# EAGLE library part ENCODER_QUADRATE_WITH_BUTTON (library tlcamera_rail_to_manufacture)
ENCODER, QUADRATE OUTPUT, INCLUDED SWITCH
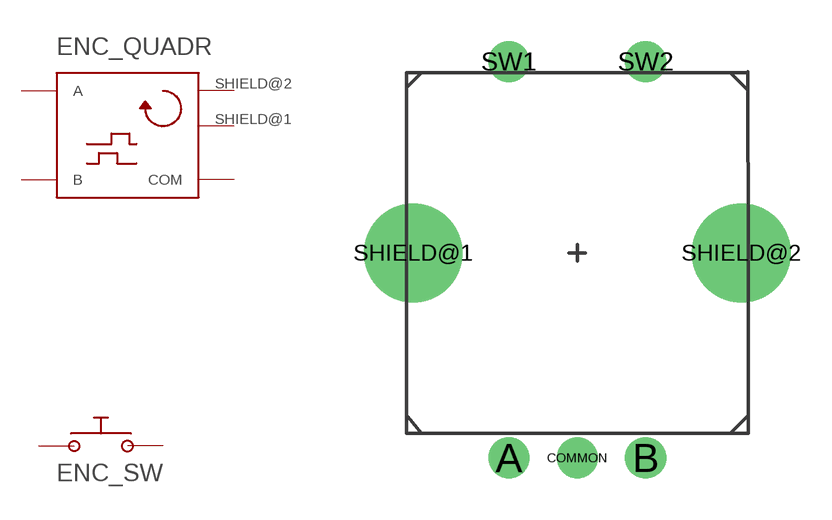
[diagram p4: symbol with the pads of ENCODER_PEC11-4XXXF-SXXXX; footprint ENCODER_PEC11-4XXXF-SXXXX]

Designator prefix ENC; gates _QUADR=ENCODER_QUADRATE _SW=SW_NO_2PIN

## ENCODER_QUADRATE_WITH_BUTTON_ENCODER_PEC11-4XXXF-SXXXX (DATASHEET: http://www.bourns.com/data/global/pdfs/pec11.pdf; FARNELL: http://fi.farnell.com/bourns/pec11-4220f-s0012/increm-encoder-dual-60rpm-12mm/dp/1838961)  [ENCODER_PEC11-4XXXF-SXXXX]
A  _QUADR:A
B  _QUADR:B
COMMON  _QUADR:COM
SHIELD@1  _QUADR:SHIELD
SHIELD@2  _QUADR:SHIELD
SW1  _SW:P$1
SW2  _SW:P$2

## Footprint ENCODER_PEC11-4XXXF-SXXXX (pad centres in mm)
drill 1: A -2.5,-7.5; B 2.5,-7.5; COMMON 0,-7.5; SW1 -2.5,7; SW2 2.5,7
drill 2.6: SHIELD@1 -6,0; SHIELD@2 6,0